# Altium schematic symbol library LTC3204-3.3.SchLib: 1 symbol
Pins are listed as number, name and electrical type; pins without a type are passive.

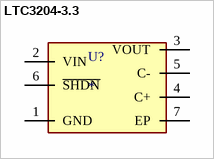
[diagram p0: symbol LTC3204-3.3]

## LTC3204-3.3
designator U?
footprint PCBComponent_1
pins: 1 GND, 2 VIN, 3 VOUT, 4 C+, 5 C-, 6 ~{SHDN}, 7 EP